# Altium footprint library SF16_POWER.PcbLib: 31 footprints (part 1 of 2)
Each footprint in its own frame and in the unit in brackets; x right, y up, seen from the top. Pads: shape width x height; smd on the part's side, far side on the other; paste and mask are expansions set on the pad; w line width, h text height; cw(c..) or ccw(c..) is an arc to the next point about the centre after c.
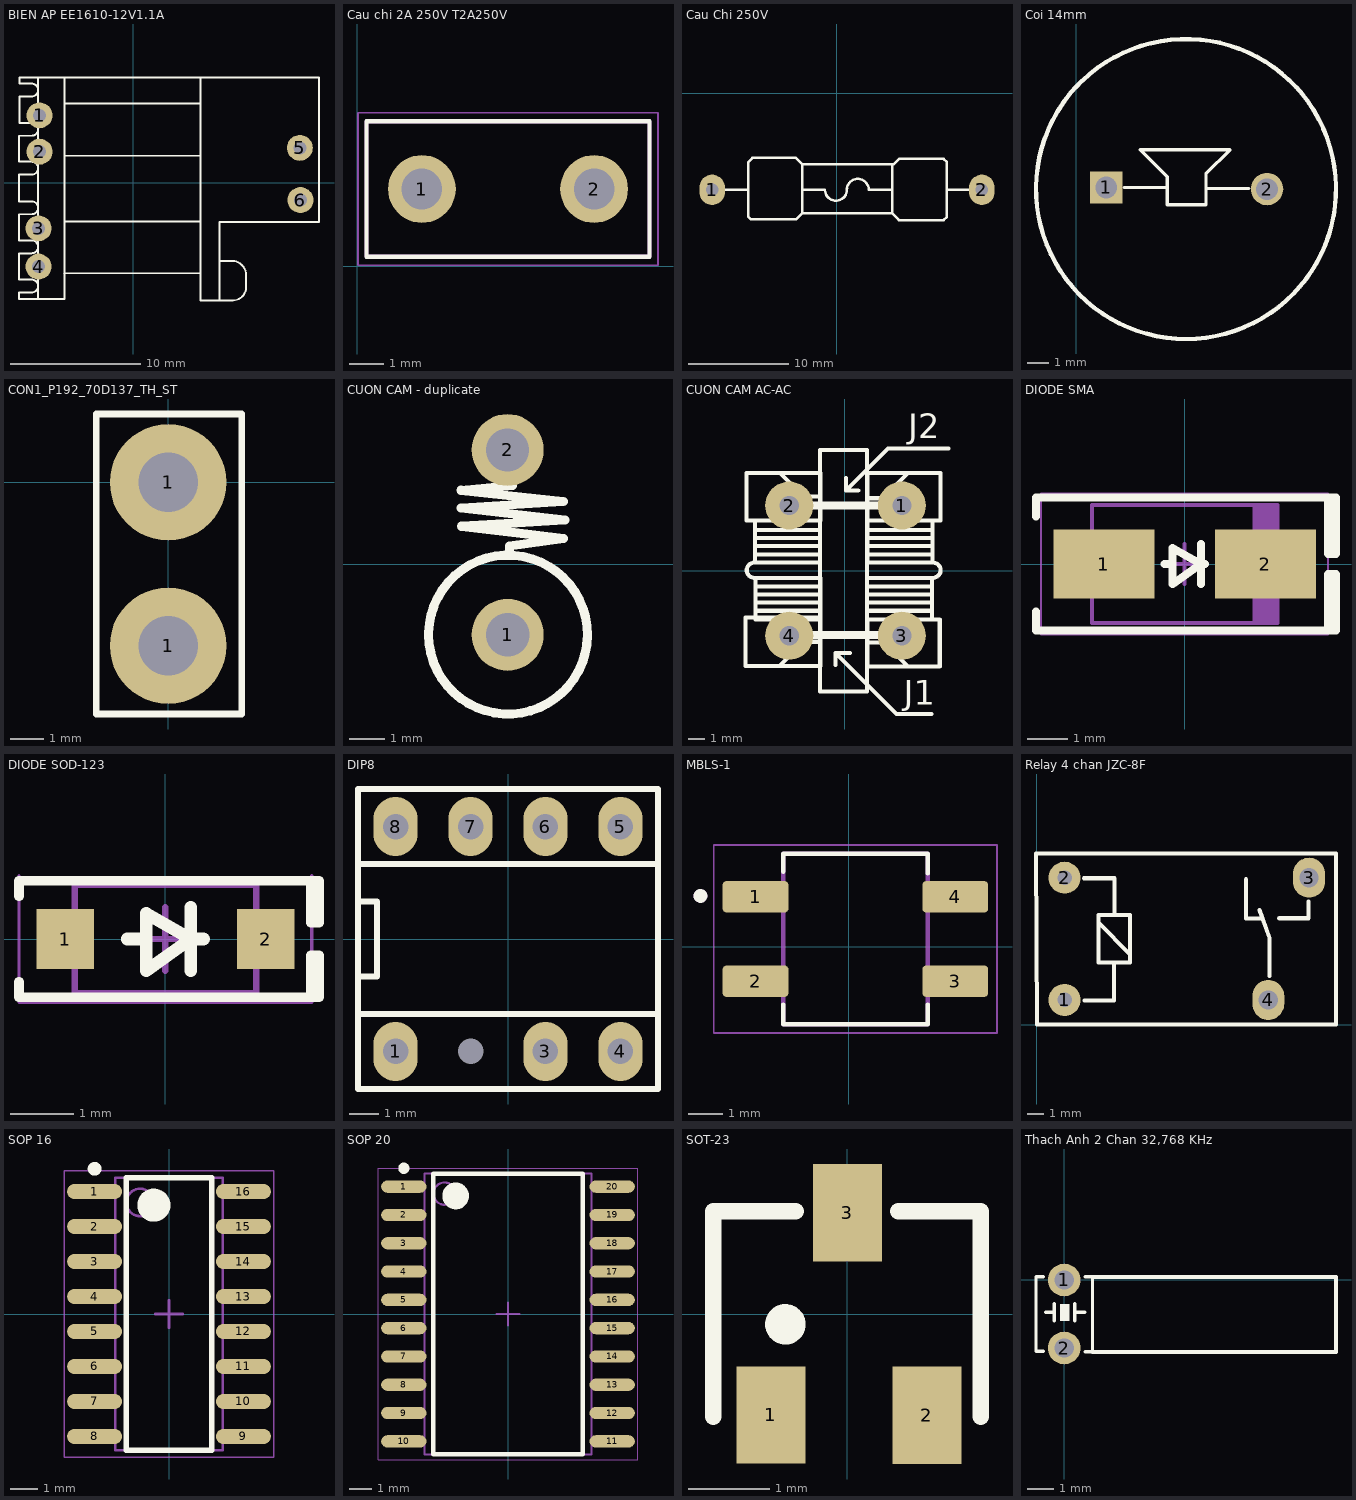
[diagram p0: the footprints below, top view; thin cyan lines are the x and y axes]

## BIEN AP EE1610-12V1.1A [mm]
height 1.75
pads (6):
  round 2 hole 1: 1(-7.225,5.2) 2(-7.225,2.4) 3(-7.3,-3.5) 4(-7.3,-6.45) 5(12.825,2.7) 6(12.875,-1.325)
Top Overlay:
  lines w0.15: -8.806,-7.451 -8.806,-5.424 -7.833,-5.424 ccw(c-7.833,-4.927) -7.833,-4.43 -8.781,-4.43 ; -8.806,-4.43 -8.806,-2.418 -7.833,-2.418 ccw(c-7.833,-1.921) -7.833,-1.424 -8.781,-1.424 ; -8.806,-1.424 -8.806,0.636 -7.833,0.636 ccw(c-7.833,1.133) -7.833,1.63 -8.781,1.63 ; -8.806,1.63 -8.806,3.632 -7.833,3.632 ccw(c-7.833,4.129) -7.833,4.626 -8.781,4.626 -8.781,6.651 -7.833,6.651 ccw(c-7.833,7.148) -7.833,7.645 -8.781,7.645 -8.781,8.108 ; -8.781,-7.451 -7.833,-7.451 cw(c-7.833,-7.948) -7.833,-8.446 -8.806,-8.446 -8.806,-8.934 ; -7.416,-8.934 -8.806,-8.934 ; -7.416,8.108 -8.781,8.108 ; -7.34,-8.919 -7.338,8.105 ; -5.343,-6.959 5.162,-6.959 ; -5.313,-2.972 5.162,-2.972 ; -5.295,6.11 5.162,6.11 ; -5.293,2.09 5.171,2.09 ; -5.288,8.101 -5.288,-8.934 -8.806,-8.934 ; 5.162,8.05 5.162,-6.983 5.162,-9.051 7.674,-9.051 ccw(c7.674,-8.05) 8.675,-8.05 8.675,-7.078 ccw(c7.615,-7.078) 7.615,-6.018 6.698,-6.018 cw(c6.698,-6.011) 6.691,-6.011 ; 6.604,-9.042 ccw(c6.604,-8.996) 6.65,-8.996 6.65,-3 14.301,-3 14.301,8.05 ; 14.301,8.108 -8.781,8.108

## Cau chi 2A 250V T2A250V [mm]
height 1.27
pads (2):
  round 2 hole 1.2: 1(1.905,2.286) 2(6.985,2.286)
Top Overlay:
  lines w0.127: 0.27,0.286 0.27,4.286 8.62,4.286 8.62,0.286 0.27,0.286
Mechanical 13:
  lines w0.127: 0.27,0.286 8.62,0.286 8.62,4.286 0.27,4.286 0.27,0.286
Mechanical 15:
  lines w0.05: 0.02,0.036 0.02,4.536 8.87,4.536 8.87,0.036 0.02,0.036
3D body "0697W2000-02.STEP": height 8.1, standoff -11, extent 0.27,0.318 8.62,4.318

## Cau Chi 250V [mm] "De Fuse"
pads (2):
  oval 2.54x3.048 hole 1.27: 1(-12.475,-9.7) 2(14.55,-9.7)
Top Overlay:
  lines w0.254: -12.475,-9.7 -8.923,-9.7 ; -3.431,-9.7 -1.171,-9.7 ccw(c-0.075,-9.7) 1.021,-9.699 cw(c2.118,-9.699) 3.214,-9.698 5.562,-9.698 ; -3.428,-11.983 -3.428,-12.029 ; 5.545,-12.029 -3.428,-12.029 ; 5.579,-7.186 5.579,-12.062 6.249,-12.733 10.723,-12.733 11.049,-12.407 11.049,-6.918 10.723,-6.592 6.269,-6.592 5.703,-7.158 -3.428,-7.158 ; 11.087,-9.7 14.55,-9.7 ; -3.428,-12.029 -4.059,-12.66 -8.582,-12.66 -8.879,-12.362 -8.879,-6.951 -8.435,-6.507 -4.079,-6.507 -3.428,-7.158 ; -3.428,-12.029 -3.428,-7.158
3D body "SW3dPS-Fuse Small 1A.STEP": height 9.41, standoff 4.31, extent -8.644,-12.203 11.056,-7.103

## Coi 14mm [mm]
height 1.75
pads (2):
  rect 1.5x1.5 hole 1: 1(1.4,-13.675)
  round 1.5 hole 1: 2(8.825,-13.75)
Top Overlay:
  lines w0.15: 2.21,-13.678 4.205,-13.678 ; 6.005,-13.724 7.984,-13.725 ; 2.962,-11.928 4.21,-13.177 4.21,-14.468 6.002,-14.468 6.002,-13.045 7.118,-11.928 2.962,-11.928
  lines w0.203: 10.167,-9.034 ccw(c5.079,-13.745) 10.173,-9.039

## CON1_P192_70D137_TH_ST [mm] "SOLDER TABS"
height 7.9
pads (2):
  round 3.5 hole 1.778: 1(0,-4.9) 1(0,0)
Top Overlay:
  lines w0.2: -2.159,-6.95 -2.159,2.05 2.21,2.05 2.21,-6.95 -2.159,-6.95
3D body "77880.stp": height 10.48, standoff -3.54, extent -1.618,-6.312 1.468,1.612

## CUON CAM - duplicate [mm] "Dang cam giong tro"
height 1.75
pads (2):
  round 2 hole 1.2: 1(8.765,-1.961) 2(8.763,3.175)
Top Overlay:
  region: 9.365,2.708 9.365,2.761 9.418,2.761 9.418,2.655 9.365,2.655
  region: 9.576,3.077 9.576,3.024 9.523,3.024 9.523,2.866 9.418,2.866 9.418,2.919 9.471,2.919 9.471,2.972 9.26,2.972 9.26,3.024 9.313,3.024 9.313,3.077 9.365,3.077 9.365,3.13 9.26,3.13 9.26,3.077 9.154,3.077 9.154,3.024 9.102,3.024 9.102,2.866 9.154,2.866 9.154,2.708 9.207,2.708 9.207,2.497 9.26,2.497 9.26,2.445 9.154,2.445 9.154,2.392 8.996,2.392 8.996,2.445 8.68,2.445 8.68,2.392 8.575,2.392 8.575,2.445 8.522,2.445 8.522,2.603 8.364,2.603 8.364,2.655 8.206,2.655 8.206,3.182 8.259,3.182 8.259,3.288 8.311,3.288 8.311,3.393 8.259,3.393 8.259,3.446 8.311,3.446 8.311,3.551 8.364,3.551 8.364,3.604 8.469,3.604 8.469,3.657 8.522,3.657 8.522,3.709 8.628,3.709 8.628,3.762 8.733,3.762 8.733,3.815 9.102,3.815 9.102,3.762 9.313,3.762 9.313,3.709 9.418,3.709 9.418,3.604 9.523,3.604 9.523,3.499 9.576,3.499 9.576,3.393 9.629,3.393 9.629,3.288 9.576,3.288 9.576,3.235 9.523,3.235 9.523,3.182 9.576,3.182 9.576,3.13
  lines w0.254: 6.566,-1.966 ccw(c8.773,-1.955) 6.567,-1.9 ; 8.816,0.263 8.816,0.503 10.315,0.72 7.481,1.056 10.361,1.233 7.464,1.558 10.31,1.746 7.464,2.054 8.901,2.191 8.907,2.362
3D body "User Library-1W right 100mil.sldprt": height 13.57, standoff -3.5, extent 6.868,-3.514 10.668,1.228

## CUON CAM AC-AC [mm] "Cuon Cam 4.5x5"
height 2.29
pads (4):
  round 3 hole 1.2: 1(3.556,4.064) 2(-3.48,4.064) 3(3.556,-4.064) 4(-3.48,-4.064)
Top Overlay:
  region: 4.089,-4.258 4.089,-4.205 4.142,-4.205 4.142,-4.047 4.194,-4.047 4.194,-4.258 4.142,-4.258 4.142,-4.311 4.089,-4.311
  lines w0.254: -5.626,0.501 ccw(c-5.657,0.025) -5.61,-0.449 ; -5.626,1.016 -1.562,1.016 ; -5.626,1.524 -1.562,1.524 ; -5.626,2.032 -1.562,2.032 ; -5.626,2.54 -1.562,2.54 ; -5.593,-2.509 -1.529,-2.509 ; -5.593,-2.001 -1.529,-2.001 ; -5.593,-1.493 -1.529,-1.493 ; -5.593,-0.985 -1.529,-0.985 ; -4.101,-5.964 -2.582,-4.445 -1.524,-4.445 ; -4.064,6.096 -2.585,4.617 -1.524,4.617 ; -0.579,-5.898 -0.579,-5.153 ; 0.072,5.77 0.072,5.013 ; 0.308,-5.153 -0.579,-5.153 ; 0.829,5.013 0.072,5.013 ; 1.365,-2.509 5.429,-2.509 ; 1.365,-2.001 5.429,-2.001 ; 1.365,-1.493 5.429,-1.493 ; 1.365,-0.985 5.429,-0.985 ; 1.387,4.518 2.359,4.518 3.937,6.096 ; 1.397,-4.478 2.444,-4.478 3.919,-5.953 ; 1.397,1.016 5.461,1.016 ; 1.397,1.524 5.461,1.524 ; 1.397,2.032 5.461,2.032 ; 1.397,2.54 5.461,2.54 ; 5.416,-8.955 3.224,-8.955 -0.579,-5.153 ; 5.445,-0.449 ccw(c5.493,0.025) 5.461,0.501 ; 6.477,7.62 2.68,7.62 0.072,5.013 ; 1.397,3.139 5.969,3.139 5.969,6.096 1.397,6.096 1.397,3.139 ; 1.397,3.139 5.461,3.139 5.461,0.508 1.397,0.508 1.397,3.139 ; -6.223,-5.969 -1.524,-5.969 -1.524,-2.921 -6.223,-2.921 -6.223,-5.969 ; -6.139,3.139 -6.139,6.096 -1.524,6.096 -1.524,3.139 -6.139,3.139 ; -5.626,0.508 -1.562,0.508 -1.562,3.139 -5.626,3.139 -5.626,0.508 ; -5.593,-3.048 -5.593,-0.449 -1.529,-0.449 -1.529,-3.048 -5.593,-3.048 ; -1.562,-7.537 1.369,-7.537 1.369,7.544 -1.562,7.544 -1.562,-7.537 ; 1.365,-3.048 5.429,-3.048 5.429,-0.449 1.365,-0.449 1.365,-3.048 ; 1.397,-5.998 5.918,-5.998 5.918,-3.048 1.397,-3.048 1.397,-5.998
  lines w0.5: -2.709,-4.011 2.592,-4.012 ; -2.634,4.065 2.667,4.064
  text "J2" at 3.937,8.255 h1.52
  text "J1" at 3.683,-8.382 h1.52
Mechanical 1:
  lines w0.254: 4.172,3.91 cw(c3.556,4.064) 4.191,4.064
3D body "@_AA5;L   UU9LFNP-B-B222,   SUMIDA.STEP": height 16.77, standoff -3.5, extent -5.392,-7.747 5.608,7.753

## DIODE SMA [mm] "SMA"
height 2.4
pads (2):
  rect 2.5x1.7 smd: 1(-2,0) 2(2,0)
Top Overlay:
  lines w0.2: -3.683,-1.175 -3.683,-1.651 3.75,-1.651 3.75,-0.254 3.556,-0.254 3.556,-1.651 ; -3.683,1.175 -3.683,1.651 3.75,1.651 3.75,0.254 3.556,0.254 3.556,1.651 ; -0.5,0 -0.3,0 ; 0.4,-0.5 0.4,0.5 ; 0.5,0 0.4,0 ; 0.4,0 -0.3,0.4 -0.3,-0.5 0.4,0
Mechanical 13:
  rectangle: 1.681,-1.46 2.3,1.46
  lines w0.1: -2.3,-1.46 -2.3,1.46 2.3,1.46 2.3,-1.46 -2.3,-1.46
Mechanical 15:
  lines w0.05: -3.556,-1.75 -3.556,1.75 3.556,1.75 3.556,-1.75 -3.556,-1.75
  lines w0.1: -0.5,0 0.5,0 ; 0,-0.5 0,0.5
3D body "SMA.STEP": height 2.4, standoff 0, extent -2.6,-1.375 2.6,1.375

## DIODE SOD-123 [mm] "SOD-123"
height 1.35
pads (2):
  rect 0.9x0.95 smd: 1(-1.575,0) 2(1.575,0)
Top Overlay:
  lines w0.15: -2.3,-0.675 -2.3,-0.916 2.286,-0.916 ; -2.3,0.675 -2.3,0.916 2.286,0.916 ; 2.286,-0.916 2.286,-0.254 2.413,-0.254 2.413,-0.916 2.286,-0.916 ; 2.286,0.916 2.413,0.916 2.413,0.254 2.286,0.254 2.286,0.916
  lines w0.2: -0.6,0 -0.3,0 ; 0.4,-0.5 0.4,0.5 ; 0.6,0 0.4,0 ; 0.4,0 -0.3,-0.5 -0.3,0.4 0.4,0
Mechanical 13:
  lines w0.1: -1.425,-0.85 1.425,-0.85 1.425,0.85 -1.425,0.85 -1.425,-0.85
Mechanical 15:
  lines w0.05: -2.3,0.9 2.3,0.9 ; -2.3,1 -2.3,-1 2.3,-1 2.3,1
  lines w0.1: -0.5,0 0.5,0 ; 0,-0.5 0,0.5
3D body "SOD-123.STEP": height 1.35, standoff 0, extent -1.864,-0.775 1.864,0.775

## DIP8 [mm] "W.300/L.400"
height 1.75
pads (8):
  oval 1.5x2 hole 0.864: 1(-3.81,-3.81) 3(1.27,-3.81) 4(3.81,-3.81) 5(3.81,3.81) 6(1.27,3.81) 7(-1.27,3.81) 8(-3.81,3.81)
  round 0 hole 0.864: 2(-1.27,-3.81)
Top Overlay:
  lines w0.203: -5.08,-2.54 -5.08,2.54 ; -5.08,-2.54 -5.08,-5.08 5.08,-5.08 5.08,2.54 ; -5.08,-2.54 5.08,-2.54 ; -5.08,-2.54 5.08,-2.54 ; -5.08,-2.54 -5.08,2.54 ; -5.08,-2.54 -5.08,-1.27 ; -5.08,-1.27 -4.445,-1.27 ; -5.08,-1.27 -4.445,-1.27 ; -5.08,-1.27 -5.08,1.27 ; -5.08,1.27 -4.445,1.27 ; -5.08,1.27 -5.08,5.08 5.08,5.08 5.08,2.54 ; -5.08,1.27 -4.445,1.27 ; -5.08,2.54 5.08,2.54 ; -5.08,2.54 5.08,2.54 ; -4.445,-1.27 -4.445,1.27 ; -4.445,-1.27 -4.445,1.27 ; 5.08,-2.54 5.08,2.54 ; 5.08,-2.54 5.08,2.54
3D body "User Library-DIP8-300-metric.step": height 4.5, standoff -3.5, extent -5.4,-3.88 5.4,3.88

## MBLS-1 [mm]
height 1.27
pads (4):
  rrect23% 1.91x0.91 smd: 1(-2.7,1.45) 2(-2.7,-1) 3(3.1,-1) 4(3.1,1.45)
Top Overlay:
  circle w0.2: c-4.3,1.475 r0.1
  lines w0.127: -1.9,-1.675 -1.9,-2.255 2.3,-2.255 2.3,-1.675 ; -1.9,2.175 -1.9,2.705 2.3,2.705 2.3,2.125
Mechanical 13:
  circle w0.2: c-4.3,1.475 r0.1
  lines w0.127: -1.9,-2.255 2.3,-2.255 2.3,2.705 -1.9,2.705 -1.9,-2.255
Mechanical 15:
  lines w0.05: -3.91,-2.505 -3.91,2.955 4.31,2.955 4.31,-2.505 -3.91,-2.505
3D body "step_temp.STEP": height 2.7, standoff 0, extent -3.15,-2.255 3.55,2.705

## Relay 4 chan JZC-8F [mm]
height 1.75
pads (4):
  round 2 hole 0.9: 1(1.73,1.54) 2(1.73,9.16)
  oval 2x2.5 hole 1.2: 3(16.97,9.16) 4(14.43,1.54)
Top Overlay:
  lines w0.1: -0.052,10.675 0,0 18.65,0 18.65,10.675 -0.052,10.675
  lines w0.254: 2.95,9.123 4.843,9.123 4.843,6.821 ; 2.975,1.511 4.806,1.511 4.806,3.866 ; 3.831,6.37 5.801,4.383 ; 13.032,9.06 13.032,6.621 14.04,6.621 ; 13.892,7.149 14.517,5.374 14.517,3.025 ; 15.111,6.631 16.946,6.631 16.946,7.675 ; 4.843,6.821 5.818,6.821 5.818,3.861 3.832,3.861 3.832,6.821 4.843,6.821 ; -0.052,10.675 0,0 18.65,0 18.65,10.675 -0.052,10.675
3D body: height 15.5, standoff 0, extent 0.25,0.25 18.45,10.45
3D body: height 0, standoff 0, extent 1.73,1.54 1.73,1.54
3D body: height 0, standoff 0, extent 1.73,9.16 1.73,9.16
3D body: height 0, standoff 0, extent 16.97,9.16 16.97,9.16
3D body: height 0, standoff 0, extent 14.43,1.54 14.43,1.54

## SOP 16 [mm] "SOIC, 16-Leads, Body 9.90x3.91mm, Pitch 1.27mm, IPC Medium Density"
height 1.75
pads (16):
  oval 2x0.55 smd: 1(-2.7,4.445) 2(-2.7,3.175) 3(-2.7,1.905) 4(-2.7,0.635) 5(-2.7,-0.635) 6(-2.7,-1.905) 7(-2.7,-3.175) 8(-2.7,-4.445) 9(2.7,-4.445) 10(2.7,-3.175) 11(2.7,-1.905) 12(2.7,-0.635) 13(2.7,0.635) 14(2.7,1.905) 15(2.7,3.175) 16(2.7,4.445)
Top Overlay:
  circle w0.25: c-2.7,5.27 r0.125
  circle w0.6: c-0.55,3.95 r0.3
  lines w0.2: -1.55,-4.95 -1.55,4.95 1.55,4.95 1.55,-4.95 -1.55,-4.95
Mechanical 13:
  circle w0.1: c-1.05,4.05 r0.5
  lines w0.1: -1.95,-4.95 -1.95,4.95 1.95,4.95 1.95,-4.95 -1.95,-4.95
Mechanical 15:
  lines w0.05: -3.81,-5.2 -3.81,5.2 3.81,5.2 3.81,-5.2 -3.81,-5.2
  lines w0.1: -0.5,0 0.5,0 ; 0,-0.5 0,0.5
3D body "User Library-SOIC-16-1.step": height 1.4, standoff 0, extent -3,-4.95 3,4.95

## SOP 20 [mm] "SOIC, 20-Leads, Body 12.60x7.50mm, Pitch 1.27mm, IPC Medium Density"
height 2.65
pads (20):
  oval 2.032x0.55 smd: 1(-4.675,5.715) 2(-4.675,4.445) 3(-4.675,3.175) 4(-4.675,1.905) 5(-4.675,0.635) 6(-4.675,-0.635) 7(-4.675,-1.905) 8(-4.675,-3.175) 9(-4.675,-4.445) 10(-4.675,-5.715) 11(4.675,-5.715) 12(4.675,-4.445) 13(4.675,-3.175) 14(4.675,-1.905) 15(4.675,-0.635) 16(4.675,0.635) 17(4.675,1.905) 18(4.675,3.175) 19(4.675,4.445) 20(4.675,5.715)
Top Overlay:
  circle w0.6: c-2.35,5.3 r0.3
  circle w0.25: c-4.675,6.54 r0.125
  lines w0.2: -3.35,-6.3 3.35,-6.3 3.35,6.3 -3.35,6.3 -3.35,-6.3
Mechanical 13:
  circle w0.1: c-2.85,5.4 r0.5
  lines w0.1: -3.75,-6.3 3.75,-6.3 3.75,6.3 -3.75,6.3 -3.75,-6.3
Mechanical 15:
  lines w0.05: -5.825,-6.55 5.825,-6.55 5.825,6.55 -5.825,6.55 -5.825,-6.55
  lines w0.1: -0.5,0 0.5,0 ; 0,-0.5 0,0.5
3D body "User Library-SOIC20.step": height 2.25, standoff 0.01, extent -5.067,-6.3 5.067,6.3

## SOT-23 [mm] "SOT 23 _ 1-3-2"
height 1.27
pads (3):
  rect 0.85x1.2 smd: 1(-0.94,-1.245) 2(0.985,-1.25) 3(0.005,1.25)
Top Overlay:
  circle w0.25: c-0.76,-0.127 r0.125
  lines w0.203: -1.651,-1.27 -1.651,1.27 -0.635,1.27 ; 0.635,1.27 1.651,1.27 1.651,-1.27
3D body "SW3DPS-SOT-23-DEFAULT.STEP": height 1.06, standoff -0.04, extent -1.475,-1.326 1.525,1.174

## Thach Anh 2 Chan 32,768 KHz [mil]
height 68.9
pads (2):
  round 48 hole 28: 1(0,0) 2(0,-100)
Top Overlay:
  rectangle: -6.5,-60.5 7.5,-35.5
  lines w5: -30.5,-104.5 -41.5,-104.5 -41.5,4.5 -30.5,4.5 ; -27.5,-47.5 -14.5,-47.5 ; -14.5,-60 -14.5,-35 ; 15.5,-60 15.5,-35 ; 15.5,-47.5 30.5,-47.5 ; 30.5,-105.5 41.5,-105.5 41.5,4.5 30.5,4.5
  lines w5.91: 41.5,-105.5 399.44,-105.5 399.44,4.5 41.5,4.5
3D body "User Library-R38_100mils.STEP": height 66.34, standoff -16.34, extent -41.5,-105.12 399.44,5.12